# EAGLE library part ATGM336H-5N31 (library ATGM336H-5N31)
GSM & GPRS & GPS Modules 9.7X10.1mm RoHS Source: Datasheet <https://datasheet.lcsc.com/szlcsc/ZHONGKEWEI-ATGM336H-5N31_C90770.pdf>
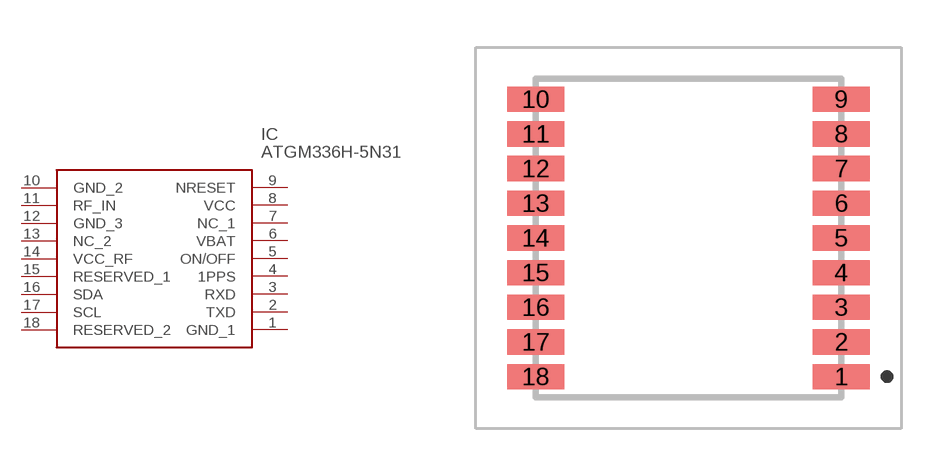
[diagram p0: symbol with the pads of ATGM336H5N31; footprint ATGM336H5N31]

Designator prefix IC

## ATGM336H-5N31 (DESCRIPTION: GSM & GPRS & GPS Modules 9.7X10.1mm RoHS; HEIGHT: 2.6mm; MANUFACTURER_NAME: ZHONGKEWEI; MANUFACTURER_PART_NUMBER: ATGM336H-5N31)  [ATGM336H5N31]
1  GND_1
2  TXD
3  RXD
4  1PPS
5  ON/OFF
6  VBAT
7  NC_1
8  VCC
9  NRESET
10  GND_2
11  RF_IN
12  GND_3
13  NC_2
14  VCC_RF
15  RESERVED_1
16  SDA
17  SCL
18  RESERVED_2

## Footprint ATGM336H5N31 (pad centres in mm)
ATGM336H-5N31-2
smd 1.8 x 0.8: 1 4.85,-4.4; 2 4.85,-3.3; 3 4.85,-2.2; 4 4.85,-1.1; 5 4.85,0; 6 4.85,1.1; 7 4.85,2.2; 8 4.85,3.3; 9 4.85,4.4; 10 -4.85,4.4; 11 -4.85,3.3; 12 -4.85,2.2; 13 -4.85,1.1; 14 -4.85,0; 15 -4.85,-1.1; 16 -4.85,-2.2; 17 -4.85,-3.3; 18 -4.85,-4.4